# EAGLE library part MCP79410T-I/MS (library RTC)
IC RTC CLK/CALENDAR I2C 8-MSOP Manufacturer's datasheet <https://s3.amazonaws.com/snapeda/datasheet/MCP79410T-I/MS_Microchip.pdf>
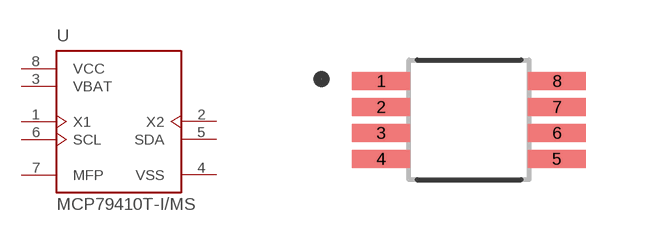
[diagram p6: symbol with the pads of MCP79410T-I/MS; footprint MCP79410T-I/MS]

Designator prefix U

## MCP79410T-I/MS (CREATED_BY: PCBLayout.com; DIGIKEY_PARTNO: MCP79410T-I/MSCT-ND; MANUFACTURER: Microchip Technology; MPN: MCP79410T-I/MS; PACKAGE: 8-MSOP)  [MCP79410T-I/MS]
1  X1  in
2  X2  out
3  VBAT  in
4  VSS  pwr
5  SDA
6  SCL  pas
7  MFP  pas
8  VCC  pwr

## Footprint MCP79410T-I/MS (pad centres in mm)
smd 1.45 x 0.45: 1 -2.2,0.975; 2 -2.2,0.325; 3 -2.2,-0.325; 4 -2.2,-0.975; 5 2.2,-0.975; 6 2.2,-0.325; 7 2.2,0.325; 8 2.2,0.975